# Altium footprint library HDDR_17x1_0.PcbLib: 1 footprints
Each footprint in its own frame and in the unit in brackets; x right, y up, seen from the top. Pads: shape width x height; smd on the part's side, far side on the other; paste and mask are expansions set on the pad; w line width, h text height; cw(c..) or ccw(c..) is an arc to the next point about the centre after c.
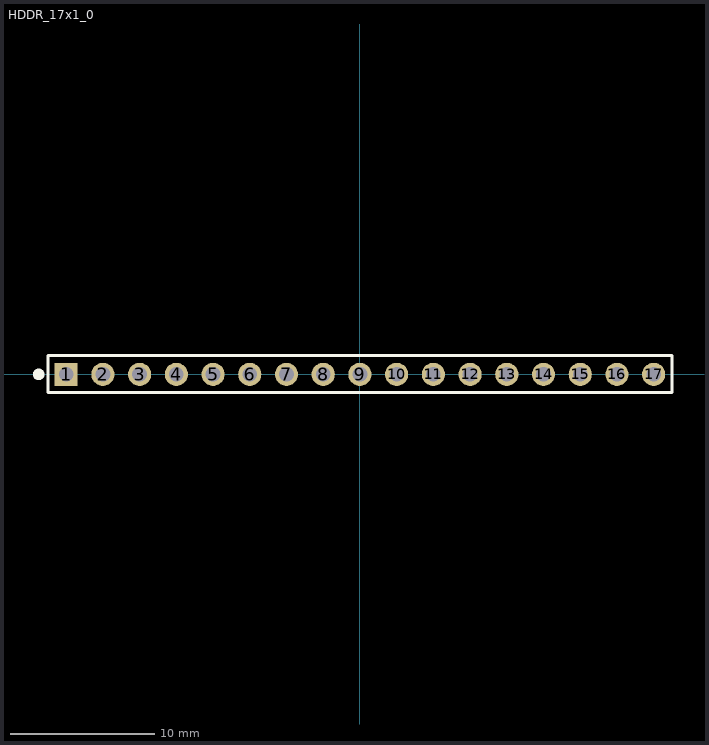
[diagram p0: the footprint, top view; thin cyan lines are the x and y axes]

## HDDR_17x1_0 [mm]
pads (17):
  rect 1.6x1.6 hole 1.02: 1(-20.32,0)
  round 1.6 hole 1.02: 2(-17.78,0) 3(-15.24,0) 4(-12.7,0) 5(-10.16,0) 6(-7.62,0) 7(-5.08,0) 8(-2.54,0) 9(0,0) 10(2.54,0) 11(5.08,0) 12(7.62,0) 13(10.16,0) 14(12.7,0) 15(15.24,0) 16(17.78,0) 17(20.32,0)
Top Overlay:
  circle w0.4: c-22.22,0 r0.2
  lines w0.2: -21.57,-1.25 21.6,-1.25 21.6,1.3 -21.57,1.3 -21.57,-1.25
3D body "hddr_male_17x1.SLDPRT": height 8.54, standoff -3, extent -21.59,-1.24 21.59,1.3